# EAGLE library part PICAXE-08M2 (library bt_pic)
PICAXE 8 pin BASIC microcontroller chip PICAXE is a neat entry-level microcontroller system that is relatively cheap to get started with. The chip is programmed with a simple serial connection and the BASIC development environment is free! PICAXE has some excellent educational applications and support, and is a great entryway into more complicated embedded systems. If you’re look for a place to start with microcontrollers, PICAXE is a great way to go! datasheet.pdf <http://www.rev-ed.co.uk/docs/picaxe_manual1.pdf>
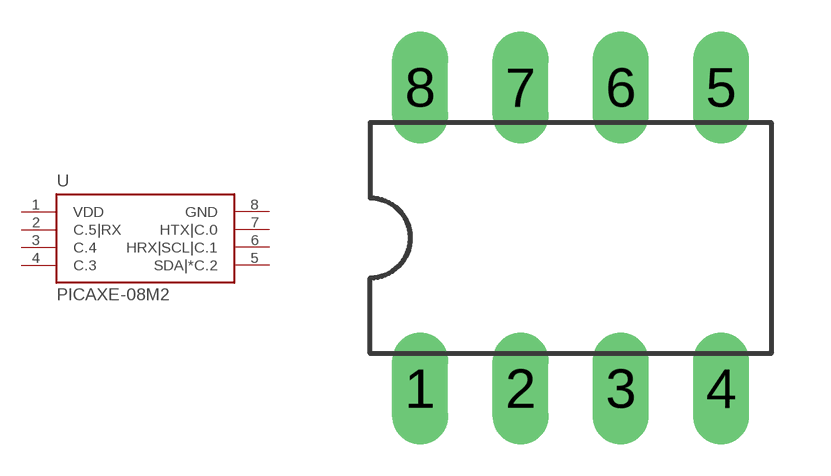
[diagram p14: symbol with the pads of DIL8; footprint DIL8]

Designator prefix -

## PICAXE-08M2  [DIL8]
1  VDD
2  C.5|RX  in
3  C.4
4  C.3  in
5  SDA|*C.2
6  HRX|SCL|C.1
7  HTX|C.0
8  GND

## Footprint DIL8 (pad centres in mm)
drill 0.813 pad 1.422 long: 1 -3.81,-3.81; 2 -1.27,-3.81; 3 1.27,-3.81; 4 3.81,-3.81; 5 3.81,3.81; 6 1.27,3.81; 7 -1.27,3.81; 8 -3.81,3.81